# Altium integrated library OPTCPLR TLP521-2ch.IntLib: 1 symbol
Pins are listed as number, name and electrical type; pins without a type are passive.

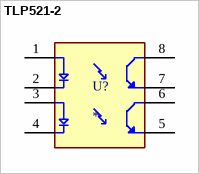
[diagram p0: symbol TLP521-2]

## TLP521-2
designator U?
Optoisolateur Ã  sortie transistor 5300 Vrms 2 canaux 8 DIP; MF: Toshiba; MP: TLP521-2; SnapEDA_Link: https://www.snapeda.com/parts/TLP521-2/Toshiba/view-part/?ref=snap; Package: DIP-8 Toshiba; Value: *; Check_prices: https://www.snapeda.com/parts/TLP521-2/Toshiba/view-part/?ref=eda
footprint DIP762W50P254L1018H451Q8
pins: 1, 2, 3, 4, 5, 6, 7, 8